# EAGLE library part MPR03XEPR2 (library Freescale CapSense)
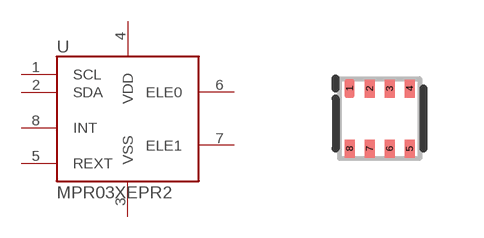
[diagram p0: symbol with the pads of UDFN8; footprint UDFN8]

Designator prefix -

## MPR03XEPR2  [UDFN8]
1  SCL  in
2  SDA
3  VSS  pwr
4  VDD  pwr
5  REXT
6  ELE0
7  ELE1
8  INT  out

## Footprint UDFN8 (pad centres in mm)
smd 0.25 x 0.45: 1 -0.75,0.75; 2 -0.25,0.75; 3 0.25,0.75; 4 0.75,0.75; 5 0.75,-0.75; 6 0.25,-0.75; 7 -0.25,-0.75; 8 -0.75,-0.75